# Altium schematic symbol library USB_PD_PSU.SchLib: 35 symbols
Pins are listed as number, name and electrical type; pins without a type are passive.

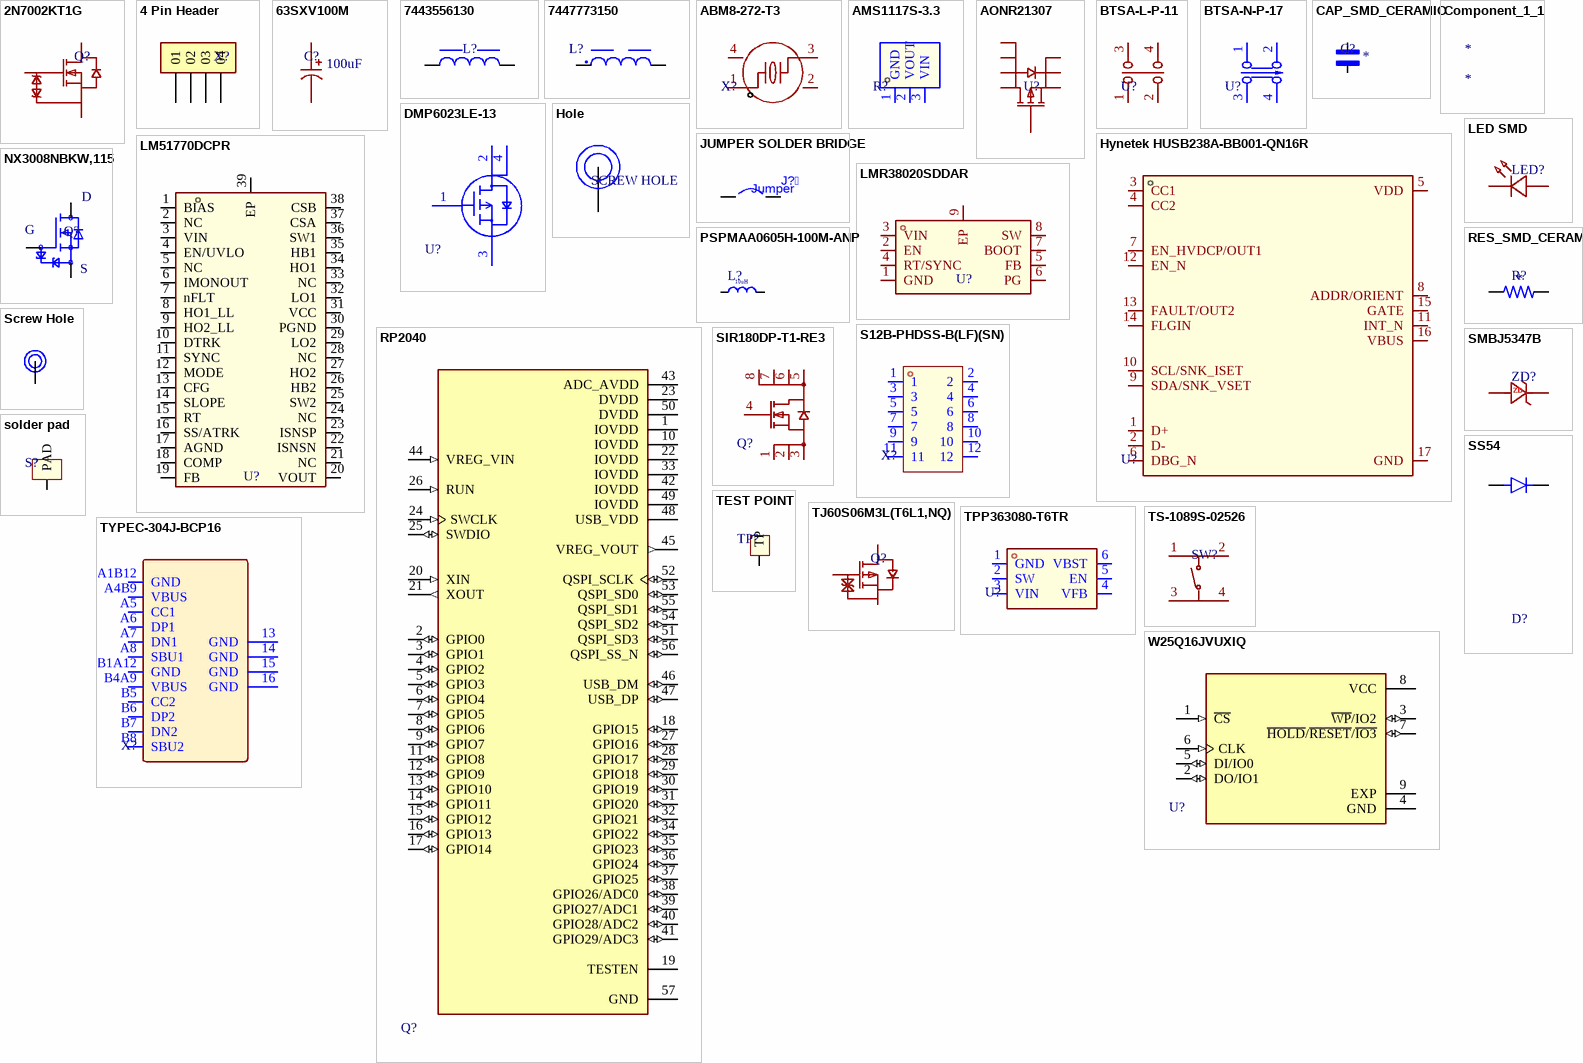
[diagram p0: symbols 2N7002KT1G to W25Q16JVUXIQ]

## 2N7002KT1G
designator Q?, comment MOSFET N-CH 60V 380mA SOT-23  (value not drawn)
60V 380mA 2.5Ω@4.5V,200mA 420mW 2.3V@250uA 1 N-Channel SOT-23 Single FETs, MOSFETs ROHS; Manifacturing Part Number: 2N7002KT1G; Manifacturing Company Name: onsemi; Data Sheet: https://www.lcsc.com/datasheet/C116584.pdf; Package: SOT-23; Price: *; JLCPCB Part #: C116584
footprint SOT-23-3_L2.9-W1.3-P1.90-LS2.4-BR
pins: 1 G, 2 S, 3 D

## 4 Pin Header
designator X?, comment Header X 5  (value not drawn)
4 pin header pitch 2.54mm; Manifacturing Part Number: C91552; Manifacturing Company Name: BOOMELE(Boom Precision Elec); Data Sheet: https://datasheet.lcsc.com/lcsc/2304140030_BOOMELE-Boom-Precision-Elec-C91552_C91552.pdf; Package: THT P 2.54mm; Price: *; Tolerance: N/A; JLCPCB Part #: C91552
footprint SAMTEC_TS-104-T-A
pins: 01, 02, 03, 04

## 63SXV100M
designator C?, comment value 100uF  (hidden comment: SMD capacitor)
63V 100uF Polymer ±20% 25mΩ 164mA@120Hz SMD,D10xL12.7mm Aluminum - Polymer Capacitors ROHS; Manifacturing Part Number: 63SXV100M; Manifacturing Company Name: PANASONIC; Data Sheet: https://www.lcsc.com/datasheet/C3274502.pdf; Package: SMD,D10xL12.7mm; Price: *; Voltage: 63V; Tolerance: ±20%; JLCPCB Part #: *
footprint CAP-SMD_BD10.0-L10.3-W10.3-LS11.0-FD
pins: 1, 2

## 7443556130
designator L?, comment FIXED IND  (value not drawn)
1.3 µH Shielded Wirewound Inductor 34.5 A 0.94mOhm Nonstandard; Manifacturing Part Number: 7443556130; Manifacturing Company Name: Würth Elektronik; Data Sheet: https://www.we-online.com/components/products/datasheet/7443556130.pdf; Package: 0.720" L x 0.717" W (18.30mm x 18.20mm); Price: *
footprint WE-HCI_1890
pins: 1, 2

## 7447773150
designator L?, comment FIXED IND  (value not drawn)
15 µH Shielded Drum Core, Wirewound Inductor 2.2 A 69.5mOhm Max Nonstandard; Manifacturing Part Number: 7447773150; Manifacturing Company Name: Würth Elektronik; Data Sheet: https://www.we-online.com/components/products/datasheet/7447773150.pdf; Package: SMD,0.291" L x 0.287" W (7.40mm x 7.30mm); Price: *; Tolerance: N/A
footprint WE-PD_7345P
pins: 1, 2

## ABM8-272-T3
designator X?, comment Crystals  (value not drawn)
12 MHz ±30ppm Crystal 10pF 50 Ohms 4-SMD, No Lead; Manifacturing Part Number: ABM8-272-T3; Manifacturing Company Name: ABRACON; Data Sheet: https://mm.digikey.com/Volume0/opasdata/d220001/medias/docus/6536/ABM8_Datasheet.pdf; Package: 3225-4P; Price: *; Tolerance: ±30ppm; JLCPCB Part #: C20625731
footprint CRYSTAL-SMD_4P-L3.2-W2.5-BL
pins: 1, 2 GND, 3, 4 GND

## AMS1117S-3.3
designator R?, comment 3.3V LDO  (value not drawn)
70dB@(120Hz) 1A Fixed 3.3V Positive 30V SOT-89-3 Voltage Regulators - Linear, Low Drop Out (LDO) Regulators ROHS; Manifacturing Part Number: AMS1117S-3.3; Manifacturing Company Name: JSMSEMI; Data Sheet: https://www.lcsc.com/datasheet/C917152.pdf; Package: SOT-89-3; Price: *; Tolerance: N/A; JLCPCB Part #: JSMSEMI; Value: *
footprint SOT-89-3_L4.5-W2.5-P1.50-LS4.1-BR
pins: 1 GND, 2 VOUT, 3 VIN

## AONR21307
designator U?, comment P-Channel  MOSFET  (value not drawn)
30V 24A 9.2mΩ@10V 1.8V@250uA 1 P-Channel DFN-8(3x3) MOSFETs ROHS; Manifacturing Part Number: AONR21307; Manifacturing Company Name: AOS; Data Sheet: https://www.lcsc.com/datasheet/C3277813.pdf; Package: DFN-8(3x3); Price: *; Tolerance: N/A; JLCPCB Part #: C3277813
footprint PRPAK-8_L3.0-W3.0-P0.65-BL-EP
pins: 1 S, 2 S, 3 S, 4 G, 5 D, 6 D, 7 D, 8 D

## BTSA-L-P-11
designator U?, comment THT Button  (value not drawn)
Latching Through Hole 10,000 Cycles Without 2.5N 50mA Through Hole Pushbutton Switches ROHS; Manifacturing Part Number: BTSA-L-P-11; Manifacturing Company Name: ROCPU Switches; Data Sheet: https://www.lcsc.com/datasheet/C2693635.pdf; Package: THT; Price: N/A; Tolerance: N/A; JLCPCB Part #: C2693635; Value: N/A
footprint SW-TH_BTSA-X-P-11
pins: 1, 2, 3, 4

## BTSA-N-P-17
designator U?, comment THT Button  (value not drawn)
Non-Latching Through Hole 10,000 Cycles Without 2.6N 100mA Through Hole Pushbutton Switches ROHS; Manifacturing Part Number: BTSA-N-P-17; Manifacturing Company Name: ROCPU Switches; Data Sheet: https://www.lcsc.com/datasheet/C2693641.pdf; Package: THT; Price: N/A; Tolerance: N/A; JLCPCB Part #: C2693641; Value: N/A
footprint SW-TH_BTSA-X-P-17
pins: 1, 2, 3, 4

## CAP_SMD_CERAMIC
designator C?, comment SMD capacitor  (value not drawn)
Tolerance: ±10%; Package: 0603; Price: *; Voltage: *; JLCPCB Part #: *; Value: *
footprint CAP 0402
footprint CAP_0603
footprint CAP_0805
footprint CAP_1210
footprint CAP_2220
pins: 1, 2

## Component_1_1
designator *

## DMP6023LE-13
designator U?, comment P-Channel  MOSFET  (value not drawn)
60V 7A 2W 35mΩ@4.5V,4A 3V@250uA 1 P-Channel SOT-223 MOSFETs ROHS; Manifacturing Part Number: DMP6023LE-13; Manifacturing Company Name: DIODES; Data Sheet: https://www.lcsc.com/datasheet/C154901.pdf; Package: SOT-223; Price: *; Tolerance: N/A; JLCPCB Part #: C154901
footprint SOT-223-4_L6.5-W3.5-P2.30-LS7.0-BR
pins: 1 G, 2 D, 3 S, 4 D

## Hole
designator SH?, comment SCREW HOLE
footprint PCB hole
pins: 1

## Hynetek HUSB238A-BB001-QN16R
designator U?, comment USB-PD-IC  (value not drawn)
QFN-16L-EP(3x3) USB PD ROHS; Manifacturing Part Number: HUSB238A-BB001-QN16R; Manifacturing Company Name: Hynetek; Data Sheet: https://www.lcsc.com/datasheet/C24833806.pdf; Package: QFN-16L-EP(3x3); Price: *; Tolerance: N/A; JLCPCB Part #: C24833806
footprint QFN-16_L3.0-W3.0-P0.50-BL-EP1.7
pins: 1 D+, 2 D-, 3 CC1, 4 CC2, 5 VDD, 6 DBG_N, 7 EN_HVDCP/OUT1, 8 ADDR/ORIENT, 9 SDA/SNK_VSET, 10 SCL/SNK_ISET, 11 INT_N, 12 EN_N, 13 FAULT/OUT2, 14 FLGIN, 15 GATE, 16 VBUS, 17 GND

## JUMPER SOLDER BRIDGE
designator J?, comment Jumper
SMD JUMPER
footprint PAD-JUMPER-2-NC_BY_PASTE_YES_SILK
pins: 1, 2

## LED SMD
designator LED?, comment LED  (value not drawn)
LED  SMD; Manifacturing Part Number: LED 3MM  204-10ASUBW/S400-A5; Package: P = 3.00MM; Price: *
footprint LED0603-RD_RED
pins: 1 K, 2 A

## LM51770DCPR
designator U?, comment Buck IC  (value not drawn)
Buck-Boost Regulator Positive Output Step-Up/Step-Down DC-DC Controller IC 38-HTSSOP; Manifacturing Part Number: TPP363080-T6TR; Manifacturing Company Name: TI; Data Sheet: https://www.ti.com.cn/cn/lit/ds/symlink/lm51770.pdf; Package: 38-HTSSOP; Price: *; Tolerance: N/A; JLCPCB Part #: C18236275
footprint HTSSOP-38_L9.7-W4.4-P0.50-LS6.4-BL-EP
pins: 1 BIAS, 2 NC, 3 VIN, 4 EN/UVLO, 5 NC, 6 IMONOUT, 7 nFLT, 8 HO1_LL, 9 HO2_LL, 10 DTRK, 11 SYNC, 12 MODE, 13 CFG, 14 SLOPE, 15 RT, 16 SS/ATRK, 17 AGND, 18 COMP, 19 FB, 20 VOUT, 21 NC, 22 ISNSN, 23 ISNSP, 24 NC, 25 SW2, 26 HB2, 27 HO2, 28 NC, 29 LO2, 30 PGND, 31 VCC, 32 LO1, 33 NC, 34 HO1, 35 HB1, 36 SW1, 37 CSA, 38 CSB, 39 EP

## LMR38020SDDAR
designator U?, comment Buck IC  (value not drawn)
2.2MHz 2A Buck Adjustable 1V~75V 1 SOP-8-EP Voltage Regulators - DC DC Switching Regulators ROHS; Manifacturing Part Number: LMR38020SDDAR; Manifacturing Company Name: Texas Instruments; Data Sheet: https://www.lcsc.com/datasheet/C3192337.pdf; Package: SOP-8-EP; Price: *; Tolerance: N/A; JLCPCB Part #: C3192337
footprint ESOP-8_L4.9-W3.9-P1.27-LS6.0-BL-EP-1
pins: 1 GND, 2 EN, 3 VIN, 4 RT/SYNC, 5 FB, 6 PG, 7 BOOT, 8 SW, 9 EP

## NX3008NBKW,115
designator Q?, comment MOSFET N-CH 30V 350mA  (value not drawn)
30V 350mA 830mW 1.4Ω@4.5V 1.1V@250uA 1 N-Channel SC-70 MOSFETs ROHS; Manifacturing Part Number: NX3008NBKW,115; Manifacturing Company Name: Nexperia; Data Sheet: https://www.lcsc.com/datasheet/C282548.pdf; Package: SC-70; Price: *; JLCPCB Part #: C282548
footprint SOT65P210X110-3N
pins: 1 G, 2 S, 3 D

## PSPMAA0605H-100M-ANP
designator L?, comment value 10uH  (hidden comment: POWER INDUCTOR)
FIXED IND 10uH 4.5A 57mΩ SMD,6.6x7.1mm; Manifacturing Part Number: PSPMAA0605H-100M-ANP; Manifacturing Company Name: PROD Tech; Data Sheet: https://www.lcsc.com/datasheet/C2983092.pdf; Package: SMD,6.6x7.1mm; Price: *
footprint INDP7166X50N (Precision Wire Wound Inductor, 2-Leads, Body 7.10x6.60mm, IPC Medium Density)
pins: 1, 2

## RES_SMD_CERAMIC
designator R?, comment SMD resistor  (value not drawn)
Tolerance: ±5%; Package: 0603; Price: *; JLCPCB Part #: *; Value: *
footprint RES 0402
footprint RES_0603
footprint RES_0805
footprint RES_1206
footprint RES_2512
pins: 1, 2

## RP2040
designator Q?, comment IC MCU 32BIT EXT MEM 56QFN  (value not drawn)
ARM® Cortex®-M0+ - Microcontroller IC 32-Bit Dual-Core 133MHz External Program Memory 56-QFN (7x7); Manifacturing Part Number: RP2040; Manifacturing Company Name: Raspberry Pi; Data Sheet: https://datasheets.raspberrypi.com/rp2040/rp2040-datasheet.pdf; Package: 56-QFN (7x7); Price: *; JLCPCB Part #: C2040
footprint QFN40P700X700X90-57N
pins: 1 IOVDD (power), 2 GPIO0 (io), 3 GPIO1 (io), 4 GPIO2 (io), 5 GPIO3 (io), 6 GPIO4 (io), 7 GPIO5 (io), 8 GPIO6 (io), 9 GPIO7 (io), 10 IOVDD (power), 11 GPIO8 (io), 12 GPIO9 (io), 13 GPIO10 (io), 14 GPIO11 (io), 15 GPIO12 (io), 16 GPIO13 (io), 17 GPIO14 (io), 18 GPIO15 (io), 19 TESTEN, 20 XIN (in), 21 XOUT (out), 22 IOVDD (power), 23 DVDD (power), 24 SWCLK (in), 25 SWDIO (io), 26 RUN (in), 27 GPIO16 (io), 28 GPIO17 (io), 29 GPIO18 (io), 30 GPIO19 (io), 31 GPIO20 (io), 32 GPIO21 (io), 33 IOVDD (power), 34 GPIO22 (io), 35 GPIO23 (io), 36 GPIO24 (io), 37 GPIO25 (io), 38 GPIO26/ADC0 (io), 39 GPIO27/ADC1 (io), 40 GPIO28/ADC2 (io), 41 GPIO29/ADC3 (io), 42 IOVDD (power), 43 ADC_AVDD (power), 44 VREG_VIN (in), 45 VREG_VOUT (out), 46 USB_DM (io), 47 USB_DP (io), 48 USB_VDD (power), 49 IOVDD (power), 50 DVDD (power), 51 QSPI_SD3 (io), 52 QSPI_SCLK (io), 53 QSPI_SD0 (io), 54 QSPI_SD2 (io), 55 QSPI_SD1 (io), 56 QSPI_SS_N (io), 57 GND (power)

## S12B-PHDSS-B(LF)(SN)
designator X?, comment Connector  (value not drawn)
2x6P 12P PHD Tin 2mm 6 -25℃~+85℃ 3A 2 2mm Copper Alloy Right Angle Through Hole,Right Angle,P=2mm Wire To Board Connector ROHS; Manifacturing Part Number: S12B-PHDSS-B(LF)(SN); Manifacturing Company Name: JST; Tolerance: ±5%; Data Sheet: https://www.lcsc.com/datasheet/C493114.pdf; Package: Through Hole,Right Angle,P=2mm; Price: *; JLCPCB Part #: C493114
pins: 1, 2, 3, 4, 5, 6, 7, 8, 9, 10, 11, 12

## Screw Hole
designator SCREW ?, comment SCREW Hole  (value not drawn)
footprint Screw Hole
pins: 1

## SIR180DP-T1-RE3
designator Q?, comment MOSFET N-CH  (value not drawn)
60V 32.4A 53.3W 1.7mΩ@10V 3.6V 1 N-Channel PowerPAKSO-8 Single FETs, MOSFETs ROHS; Manifacturing Part Number: SIR180DP-T1-RE3; Manifacturing Company Name: VISHAY; Data Sheet: https://www.lcsc.com/datasheet/C3274502.pdf; Package: PowerPAKSO-8; Price: *; JLCPCB Part #: C5334421
footprint POWERPAK-SO-8_L5.9-W4.9-P1.27-LS6.2-BL
pins: 1 S, 2 S, 3 S, 4 G, 5 D, 6 D, 7 D, 8 D

## SMBJ5347B
designator ZD?, comment DIODE ZENER 10V 5W SMB  (value not drawn)
Independent 9.5V~10.5V 5W 10V SMB(DO-214AA) Single Zener Diodes ROHS; Manifacturing Part Number: SMBJ5347B; Manifacturing Company Name: LGE; Data Sheet: https://www.lcsc.com/datasheet/C2903873.pdf; Package: SMB(DO-214AA); Price: *; JLCPCB Part #: C2903873
footprint SMB_L4.3-W3.6-LS5.2-RD
pins: 1 K, 2 A
text: ZD

## solder pad
designator S?  (value not drawn)
pins: 1 PAD

## SS54
designator D?, comment Diode  (value not drawn)
40V 550mV@5A 5A SMA(DO-214AC) Schottky Barrier Diodes (SBD) ROHS; Manifacturing Part Number: SS54; Manifacturing Company Name: FUXINSEMI; Data Sheet: https://datasheet.lcsc.com/lcsc/2205301745_FUXINSEMI-SS54_C3018536.pdf; Package: SMA(DO-214AC); Price: *
footprint SS54   SMA(DO-214AC)
pins: 1 K, 2 A

## TEST POINT
designator TP?  (value not drawn)
footprint TESTPOINT
pins: 1 TP

## TJ60S06M3L(T6L1,NQ)
designator Q?, comment MOSFET P-CH 60V 60A DPAK  (value not drawn)
60V 60A 100W 8.6mΩ@10V 1 P-Channel DPAK Single FETs, MOSFETs ROHS; Manifacturing Part Number: TJ60S06M3L(T6L1,NQ; Manifacturing Company Name: TOSHIBA; Data Sheet: https://www.lcsc.com/datasheet/C7068953.pdf; Package: C7068953; Price: *; Tolerance: N/A; JLCPCB Part #: C2835315
footprint TO-252-2_L6.6-W5.6-P4.60-LS9.7-BR
pins: 1 G, 2 D, 3 S

## TPP363080-T6TR
designator U?, comment Buck IC  (value not drawn)
Buck Adjustable 4.5V~36V 3A TSOT-23-6 DC-DC Converters ROHS; Manifacturing Part Number: TPP363080-T6TR; Manifacturing Company Name: 3PEAK; Data Sheet: https://www.lcsc.com/datasheet/C18236275.pdf; Package: TSOT-23-6; Price: *; Tolerance: N/A; JLCPCB Part #: C18236275
footprint SOT-23-6_L2.9-W1.6-P0.95-LS2.8-BR
pins: 1 GND, 2 SW, 3 VIN, 4 VFB, 5 EN, 6 VBST

## TS-1089S-02526
designator SW?, comment Dev  Switch  (value not drawn)
50mA Brick nogging SPST 12V SMD,3.3x4.2mm Tactile Switches ROHS; Manifacturing Part Number: TS-1089S-02526; Manifacturing Company Name: XUNPU; Tolerance: ±5%; Data Sheet: https://datasheet.lcsc.com/lcsc/1912111437_XUNPU-TS-1089S-02526_C455282.pdf; Package: SMD,3.3x4.2mm; Price: *; JLCPCB Part #: C455282
footprint SW-SMD_4P-L4.2-W3.3-P2.15-LS5.1
pins: 1, 2, 3, 4

## TYPEC-304J-BCP16
designator X?, comment USB-C connector  (value not drawn)
5A USB 3.1 1 Surface Mount, Right Angle 16P Female -40℃~+85℃ Type-C SMD USB Connectors ROHS; Manifacturing Part Number: TYPEC-304J-BCP16; Manifacturing Company Name: XUNPU; Data Sheet: https://www.lcsc.com/datasheet/C2835315.pdf; Package: SMD; Price: *; Tolerance: N/A; JLCPCB Part #: C2835315
footprint USB-C-SMD_TYPEC-304J-BCP16
pins: 13 GND, 14 GND, 15 GND, 16 GND, A1B12 GND, A4B9 VBUS, A5 CC1, A6 DP1, A7 DN1, A8 SBU1, B1A12 GND, B4A9 VBUS, B5 CC2, B6 DP2, B7 DN2, B8 SBU2

## W25Q16JVUXIQ
designator U?, comment SPI Flash  (value not drawn)
16Mbit 2.7V~3.6V 133MHz SPI USON-8-EP(2x3) Memory (ICs) ROHS; Manifacturing Part Number: W25Q16JVUXIQ; Manifacturing Company Name: Winbond; Data Sheet: https://www.lcsc.com/datasheet/C2843335.pdf; Package: USON-8-EP(2x3); Price: *; Tolerance: N/A; JLCPCB Part #: C2843335
footprint IC_W25Q16JVUXIQ_TR
pins: 1 ~{CS} (in), 2 DO/IO1 (io), 3 ~{WP}/IO2 (io), 4 GND (power), 5 DI/IO0 (io), 6 CLK (in), 7 ~{HOLD}/~{RESET}/~{IO3} (io), 8 VCC (power), 9 EXP